# Altium schematic symbol library Microcontroller.Schlib: 21 symbols
Pins are listed as number, name and electrical type; pins without a type are passive.

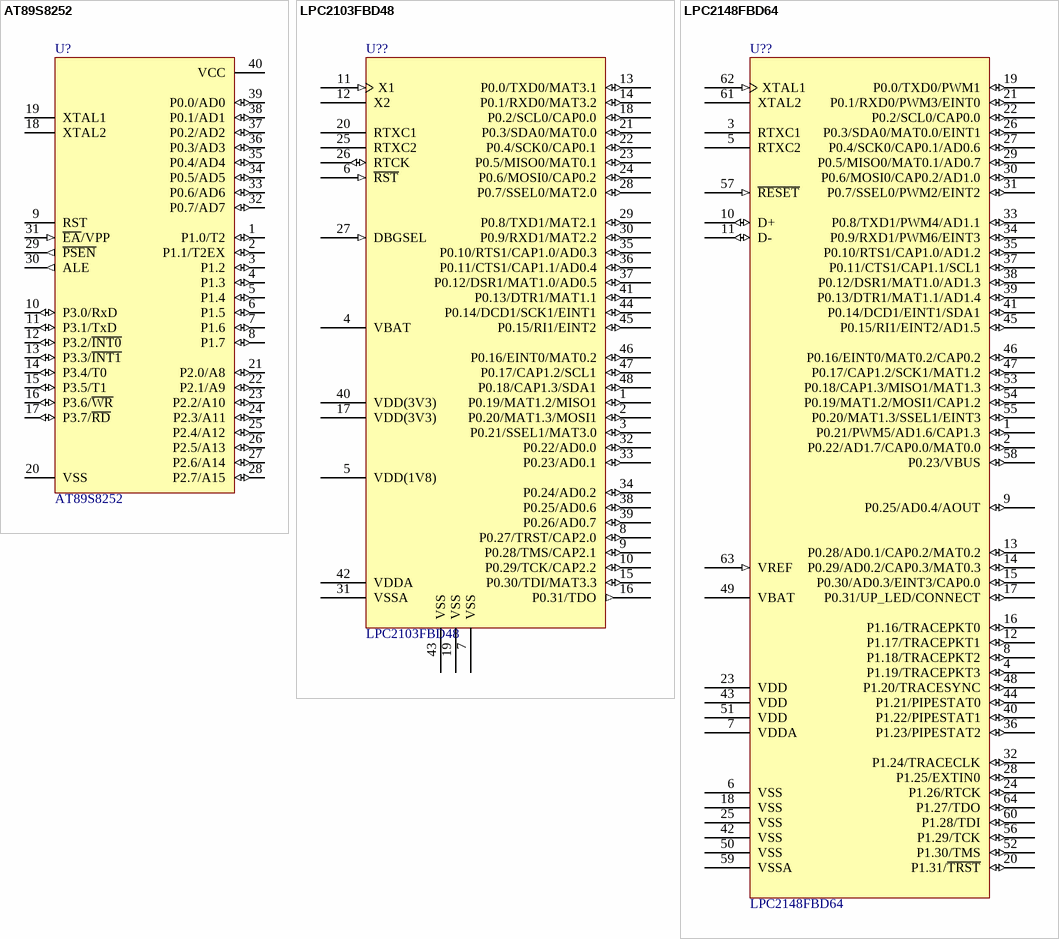
[diagram p0: symbols AT89S8252 to LPC2148FBD64]

## AT89S8252
designator U?
8051 8-Bit Microcontroller Family: 256 B RAM, 12 kB ROM, 2.7V-5.5V, Low Power, High Speed
footprint DIP40 (DIP, Plastic; 40 Leads; Row Spacing 15.24 mm; Pitch 2.54 mm)
pins: 1 P1.0/T2 (io), 2 P1.1/T2EX (io), 3 P1.2 (io), 4 P1.3 (io), 5 P1.4 (io), 6 P1.5 (io), 7 P1.6 (io), 8 P1.7 (io), 9 RST, 10 P3.0/RxD (io), 11 P3.1/TxD (io), 12 P3.2/~{INT0} (io), 13 P3.3/~{INT1} (io), 14 P3.4/T0 (io), 15 P3.5/T1 (io), 16 P3.6/~{WR} (io), 17 P3.7/~{RD} (io), 18 XTAL2, 19 XTAL1, 20 VSS (power), 21 P2.0/A8 (io), 22 P2.1/A9 (io), 23 P2.2/A10 (io), 24 P2.3/A11 (io), 25 P2.4/A12 (io), 26 P2.5/A13 (io), 27 P2.6/A14 (io), 28 P2.7/A15 (io), 29 ~{PSEN} (out), 30 ALE (out), 31 ~{EA}/VPP (in), 32 P0.7/AD7 (io), 33 P0.6/AD6 (io), 34 P0.5/AD5 (io), 35 P0.4/AD4 (io), 36 P0.3/AD3 (io), 37 P0.2/AD2 (io), 38 P0.1/AD1 (io), 39 P0.0/AD0 (io), 40 VCC (power)

## LPC2103FBD48
designator U??
ARM7 16/32-Bit Microcontroller, 32KB Flash, 8KB RAM, 48-Lead LQFP
footprint TQFP48_L (Thin QFP, 48-Leads, Body 7x7mm, Pitch 0.5mm, IPC High Density)
pins: 1 P0.19/MAT1.2/MISO1 (io), 2 P0.20/MAT1.3/MOSI1 (io), 3 P0.21/SSEL1/MAT3.0 (io), 4 VBAT (power), 5 VDD(1V8) (power), 6 ~{RST} (in), 7 VSS (power), 8 P0.27/TRST/CAP2.0 (io), 9 P0.28/TMS/CAP2.1 (io), 10 P0.29/TCK/CAP2.2 (io), 11 X1 (in), 12 X2, 13 P0.0/TXD0/MAT3.1 (io), 14 P0.1/RXD0/MAT3.2 (io), 15 P0.30/TDI/MAT3.3 (io), 16 P0.31/TDO (out), 17 VDD(3V3) (power), 18 P0.2/SCL0/CAP0.0 (io), 19 VSS (power), 20 RTXC1, 21 P0.3/SDA0/MAT0.0 (io), 22 P0.4/SCK0/CAP0.1 (io), 23 P0.5/MISO0/MAT0.1 (io), 24 P0.6/MOSI0/CAP0.2 (io), 25 RTXC2, 26 RTCK (io), 27 DBGSEL (in), 28 P0.7/SSEL0/MAT2.0 (io), 29 P0.8/TXD1/MAT2.1 (io), 30 P0.9/RXD1/MAT2.2 (io), 31 VSSA (power), 32 P0.22/AD0.0 (io), 33 P0.23/AD0.1 (io), 34 P0.24/AD0.2 (io), 35 P0.10/RTS1/CAP1.0/AD0.3 (io), 36 P0.11/CTS1/CAP1.1/AD0.4 (io), 37 P0.12/DSR1/MAT1.0/AD0.5 (io), 38 P0.25/AD0.6 (io), 39 P0.26/AD0.7 (io), 40 VDD(3V3) (power), 41 P0.13/DTR1/MAT1.1 (io), 42 VDDA (power), 43 VSS (power), 44 P0.14/DCD1/SCK1/EINT1 (io), 45 P0.15/RI1/EINT2 (io), 46 P0.16/EINT0/MAT0.2 (io), 47 P0.17/CAP1.2/SCL1 (io), 48 P0.18/CAP1.3/SDA1 (io)

## LPC2148FBD64
designator U??
ARM7 16/32-Bit Microcontroller, 512KB Flash, 32KB RAM (+8KB USB DMA shared), 2KB USB RAM, 64-Lead LQFP
footprint TQFP64_L_LPC2148FBD64_1 (64-Pin Thin Quad Flat Pack 0.5 mm Pitch, IPC High Density)
pins: 1 P0.21/PWM5/AD1.6/CAP1.3 (io), 2 P0.22/AD1.7/CAP0.0/MAT0.0 (io), 3 RTXC1, 4 P1.19/TRACEPKT3 (io), 5 RTXC2, 6 VSS (power), 7 VDDA (power), 8 P1.18/TRACEPKT2 (io), 9 P0.25/AD0.4/AOUT (io), 10 D+ (io), 11 D- (io), 12 P1.17/TRACEPKT1 (io), 13 P0.28/AD0.1/CAP0.2/MAT0.2 (io), 14 P0.29/AD0.2/CAP0.3/MAT0.3 (io), 15 P0.30/AD0.3/EINT3/CAP0.0 (io), 16 P1.16/TRACEPKT0 (io), 17 P0.31/UP_LED/CONNECT (io), 18 VSS (power), 19 P0.0/TXD0/PWM1 (io), 20 P1.31/~{TRST} (io), 21 P0.1/RXD0/PWM3/EINT0 (io), 22 P0.2/SCL0/CAP0.0 (io), 23 VDD (power), 24 P1.26/RTCK (io), 25 VSS (power), 26 P0.3/SDA0/MAT0.0/EINT1 (io), 27 P0.4/SCK0/CAP0.1/AD0.6 (io), 28 P1.25/EXTIN0 (io), 29 P0.5/MISO0/MAT0.1/AD0.7 (io), 30 P0.6/MOSI0/CAP0.2/AD1.0 (io), 31 P0.7/SSEL0/PWM2/EINT2 (io), 32 P1.24/TRACECLK (io), 33 P0.8/TXD1/PWM4/AD1.1 (io), 34 P0.9/RXD1/PWM6/EINT3 (io), 35 P0.10/RTS1/CAP1.0/AD1.2 (io), 36 P1.23/PIPESTAT2 (io), 37 P0.11/CTS1/CAP1.1/SCL1 (io), 38 P0.12/DSR1/MAT1.0/AD1.3 (io), 39 P0.13/DTR1/MAT1.1/AD1.4 (io), 40 P1.22/PIPESTAT1 (io), 41 P0.14/DCD1/EINT1/SDA1 (io), 42 VSS (power), 43 VDD (power), 44 P1.21/PIPESTAT0 (io), 45 P0.15/RI1/EINT2/AD1.5 (io), 46 P0.16/EINT0/MAT0.2/CAP0.2 (io), 47 P0.17/CAP1.2/SCK1/MAT1.2 (io), 48 P1.20/TRACESYNC (io), 49 VBAT (power), 50 VSS (power), 51 VDD (power), 52 P1.30/TMS (io), 53 P0.18/CAP1.3/MISO1/MAT1.3 (io), 54 P0.19/MAT1.2/MOSI1/CAP1.2 (io), 55 P0.20/MAT1.3/SSEL1/EINT3 (io), 56 P1.29/TCK (io), 57 ~{RESET} (in), 58 P0.23/VBUS (io), 59 VSSA (power), 60 P1.28/TDI (io), 61 XTAL2, 62 XTAL1 (in), 63 VREF (in), 64 P1.27/TDO (io)

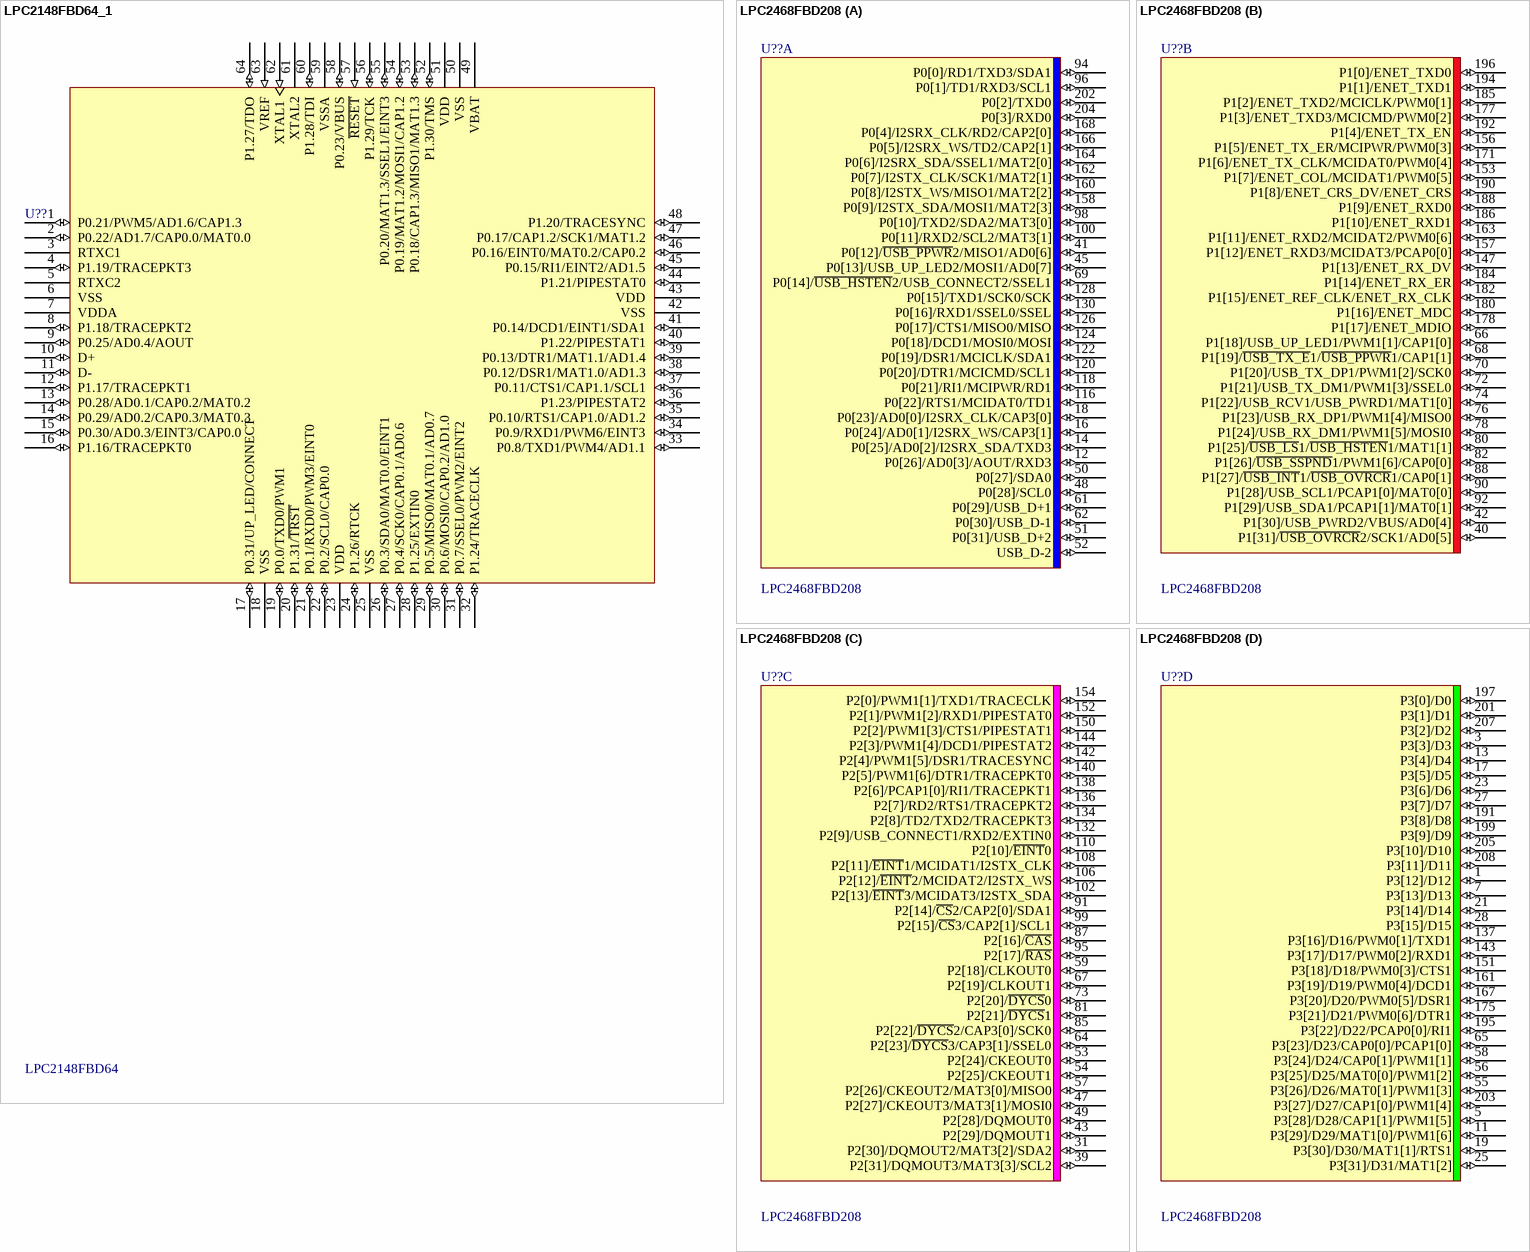
[diagram p1: symbols LPC2148FBD64_1 to LPC2468FBD208]

## LPC2148FBD64_1
designator U??, comment LPC2148FBD64
ARM7 16/32-Bit Microcontroller, 512KB Flash, 32KB RAM (+8KB USB DMA shared), 2KB USB RAM, 64-Lead LQFP
footprint TQFP64_L_LPC2148FBD64_1 (64-Pin Thin Quad Flat Pack 0.5 mm Pitch, IPC High Density)
pins: 1 P0.21/PWM5/AD1.6/CAP1.3 (io), 2 P0.22/AD1.7/CAP0.0/MAT0.0 (io), 3 RTXC1, 4 P1.19/TRACEPKT3 (io), 5 RTXC2, 6 VSS (power), 7 VDDA (power), 8 P1.18/TRACEPKT2 (io), 9 P0.25/AD0.4/AOUT (io), 10 D+ (io), 11 D- (io), 12 P1.17/TRACEPKT1 (io), 13 P0.28/AD0.1/CAP0.2/MAT0.2 (io), 14 P0.29/AD0.2/CAP0.3/MAT0.3 (io), 15 P0.30/AD0.3/EINT3/CAP0.0 (io), 16 P1.16/TRACEPKT0 (io), 17 P0.31/UP_LED/CONNECT (io), 18 VSS (power), 19 P0.0/TXD0/PWM1 (io), 20 P1.31/~{TRST} (io), 21 P0.1/RXD0/PWM3/EINT0 (io), 22 P0.2/SCL0/CAP0.0 (io), 23 VDD (power), 24 P1.26/RTCK (io), 25 VSS (power), 26 P0.3/SDA0/MAT0.0/EINT1 (io), 27 P0.4/SCK0/CAP0.1/AD0.6 (io), 28 P1.25/EXTIN0 (io), 29 P0.5/MISO0/MAT0.1/AD0.7 (io), 30 P0.6/MOSI0/CAP0.2/AD1.0 (io), 31 P0.7/SSEL0/PWM2/EINT2 (io), 32 P1.24/TRACECLK (io), 33 P0.8/TXD1/PWM4/AD1.1 (io), 34 P0.9/RXD1/PWM6/EINT3 (io), 35 P0.10/RTS1/CAP1.0/AD1.2 (io), 36 P1.23/PIPESTAT2 (io), 37 P0.11/CTS1/CAP1.1/SCL1 (io), 38 P0.12/DSR1/MAT1.0/AD1.3 (io), 39 P0.13/DTR1/MAT1.1/AD1.4 (io), 40 P1.22/PIPESTAT1 (io), 41 P0.14/DCD1/EINT1/SDA1 (io), 42 VSS (power), 43 VDD (power), 44 P1.21/PIPESTAT0 (io), 45 P0.15/RI1/EINT2/AD1.5 (io), 46 P0.16/EINT0/MAT0.2/CAP0.2 (io), 47 P0.17/CAP1.2/SCK1/MAT1.2 (io), 48 P1.20/TRACESYNC (io), 49 VBAT (power), 50 VSS (power), 51 VDD (power), 52 P1.30/TMS (io), 53 P0.18/CAP1.3/MISO1/MAT1.3 (io), 54 P0.19/MAT1.2/MOSI1/CAP1.2 (io), 55 P0.20/MAT1.3/SSEL1/EINT3 (io), 56 P1.29/TCK (io), 57 ~{RESET} (in), 58 P0.23/VBUS (io), 59 VSSA (power), 60 P1.28/TDI (io), 61 XTAL2, 62 XTAL1 (in), 63 VREF (in), 64 P1.27/TDO (io)

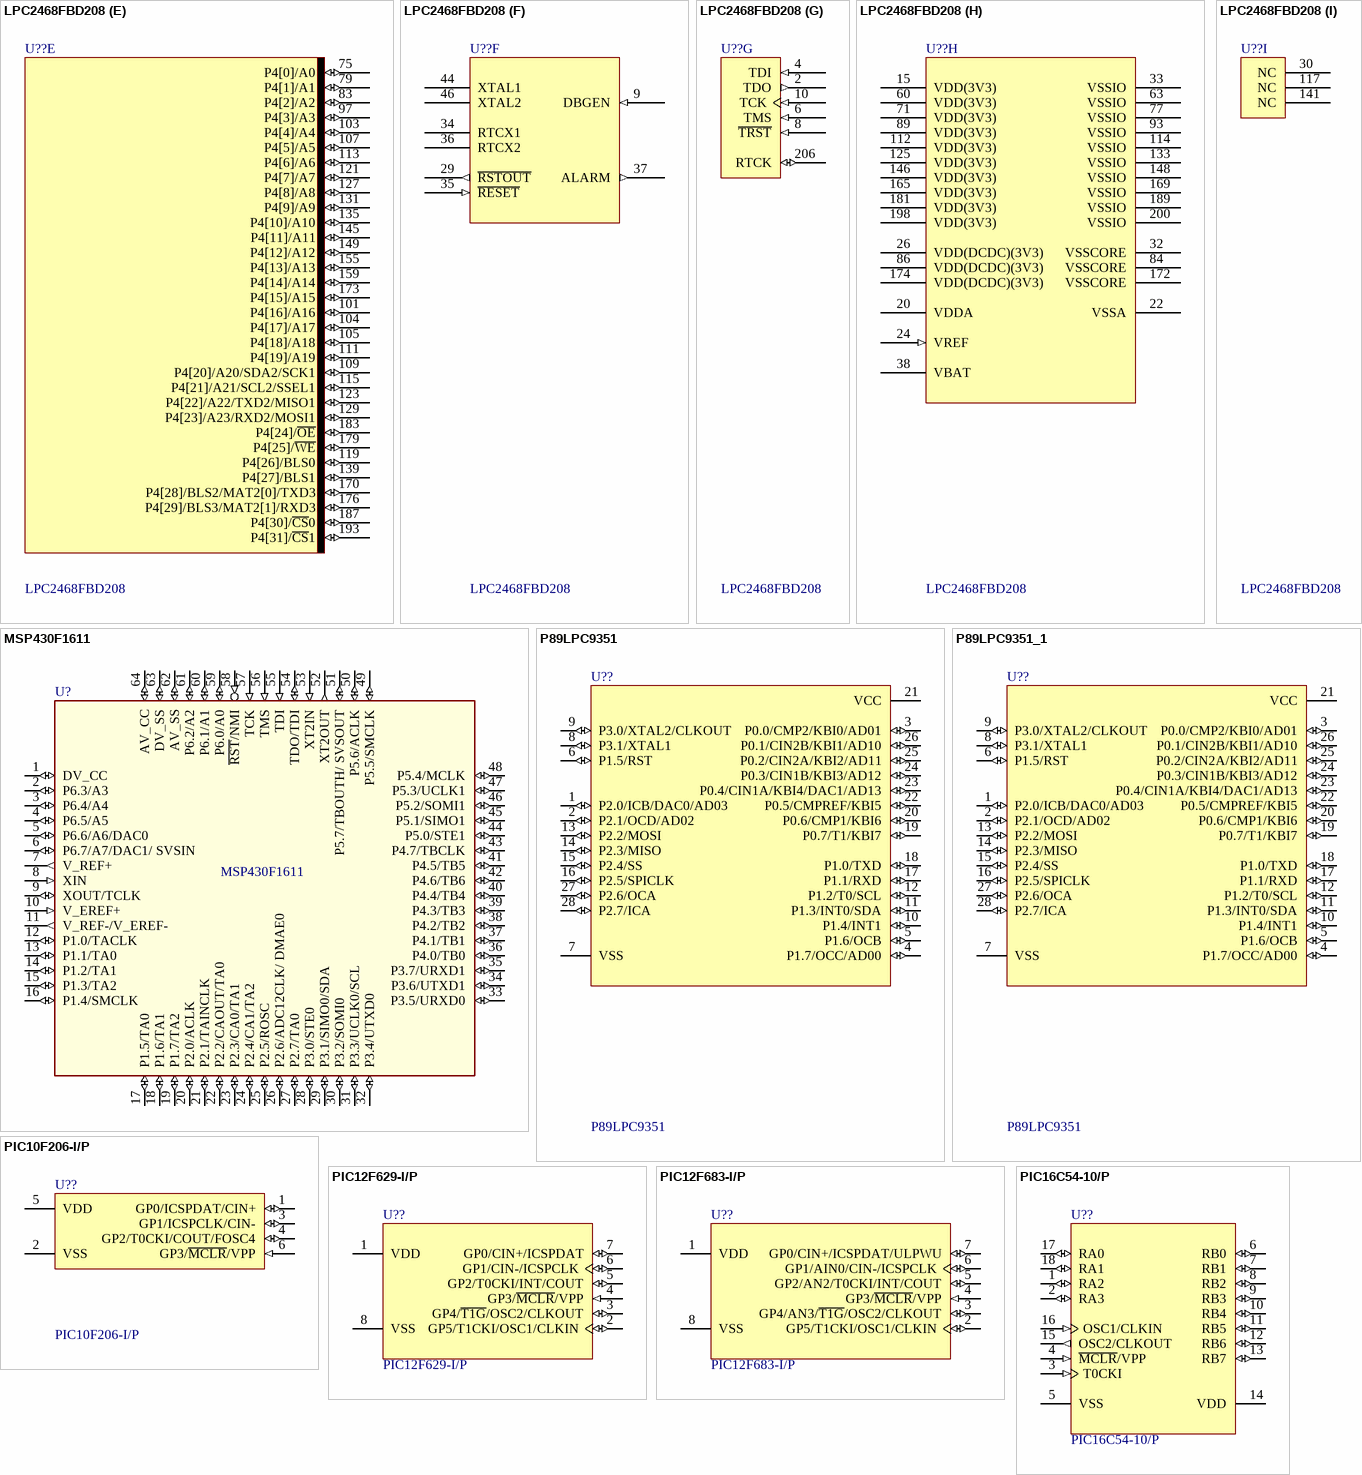
[diagram p2: symbols LPC2468FBD208 to PIC16C54-10/P]

## LPC2468FBD208
designator U??
ARM7 16/32-Bit Microcontroller, 512KB Flash, 98KB RAM, 208-Lead LQFP; Code_IEC: 136E30; Published: 17-Aug-2007; DatasheetVersion: rev.01, Jul-2007; PackageVersion: Feb-2003; PackageReference: SOT459-1; Publisher: Altium Limited; PackageDescription: 208-Pin Plastic Low Profile Quad Flat Pack, LQFP208; Code_JEDEC: MS-026; ComponentLink1Description: Manufacturer Link; ComponentLink1URL: http://www.nxp.com/; ComponentLink2Description: Datasheet; ComponentLink2URL: http://www.standardics.nxp.com/products/lpc2000/datasheet/lpc2468.pdf
footprint SOT459-1_L (Thin QFP, 208-Leads, Body 28x28mm, Pitch 0.5mm, IPC High Density)
part A pins: 12 P0[26]/AD0[3]/AOUT/RXD3 (io), 14 P0[25]/AD0[2]/I2SRX_SDA/TXD3 (io), 16 P0[24]/AD0[1]/I2SRX_WS/CAP3[1] (io), 18 P0[23]/AD0[0]/I2SRX_CLK/CAP3[0] (io), 41 P0[12]/~{USB_PPWR}2/MISO1/AD0[6] (io), 45 P0[13]/USB_UP_LED2/MOSI1/AD0[7] (io), 48 P0[28]/SCL0 (io), 50 P0[27]/SDA0 (io), 51 P0[31]/USB_D+2 (io), 52 USB_D-2 (io), 61 P0[29]/USB_D+1 (io), 62 P0[30]/USB_D-1 (io), 69 P0[14]/~{USB_HSTEN}2/USB_CONNECT2/SSEL1 (io), 94 P0[0]/RD1/TXD3/SDA1 (io), 96 P0[1]/TD1/RXD3/SCL1 (io), 98 P0[10]/TXD2/SDA2/MAT3[0] (io), 100 P0[11]/RXD2/SCL2/MAT3[1] (io), 116 P0[22]/RTS1/MCIDAT0/TD1 (io), 118 P0[21]/RI1/MCIPWR/RD1 (io), 120 P0[20]/DTR1/MCICMD/SCL1 (io), 122 P0[19]/DSR1/MCICLK/SDA1 (io), 124 P0[18]/DCD1/MOSI0/MOSI (io), 126 P0[17]/CTS1/MISO0/MISO (io), 128 P0[15]/TXD1/SCK0/SCK (io), 130 P0[16]/RXD1/SSEL0/SSEL (io), 158 P0[9]/I2STX_SDA/MOSI1/MAT2[3] (io), 160 P0[8]/I2STX_WS/MISO1/MAT2[2] (io), 162 P0[7]/I2STX_CLK/SCK1/MAT2[1] (io), 164 P0[6]/I2SRX_SDA/SSEL1/MAT2[0] (io), 166 P0[5]/I2SRX_WS/TD2/CAP2[1] (io), 168 P0[4]/I2SRX_CLK/RD2/CAP2[0] (io), 202 P0[2]/TXD0 (io), 204 P0[3]/RXD0 (io)
part B pins: 40 P1[31]/~{USB_OVRCR}2/SCK1/AD0[5] (io), 42 P1[30]/USB_PWRD2/VBUS/AD0[4] (io), 66 P1[18]/USB_UP_LED1/PWM1[1]/CAP1[0] (io), 68 P1[19]/~{USB_TX_E}1/~{USB_PPWR}1/CAP1[1] (io), 70 P1[20]/USB_TX_DP1/PWM1[2]/SCK0 (io), 72 P1[21]/USB_TX_DM1/PWM1[3]/SSEL0 (io), 74 P1[22]/USB_RCV1/USB_PWRD1/MAT1[0] (io), 76 P1[23]/USB_RX_DP1/PWM1[4]/MISO0 (io), 78 P1[24]/USB_RX_DM1/PWM1[5]/MOSI0 (io), 80 P1[25]/~{USB_LS}1/~{USB_HSTEN}1/MAT1[1] (io), 82 P1[26]/~{USB_SSPND}1/PWM1[6]/CAP0[0] (io), 88 P1[27]/~{USB_INT}1/~{USB_OVRCR}1/CAP0[1] (io), 90 P1[28]/USB_SCL1/PCAP1[0]/MAT0[0] (io), 92 P1[29]/USB_SDA1/PCAP1[1]/MAT0[1] (io), 147 P1[13]/ENET_RX_DV (io), 153 P1[7]/ENET_COL/MCIDAT1/PWM0[5] (io), 156 P1[5]/ENET_TX_ER/MCIPWR/PWM0[3] (io), 157 P1[12]/ENET_RXD3/MCIDAT3/PCAP0[0] (io), 163 P1[11]/ENET_RXD2/MCIDAT2/PWM0[6] (io), 171 P1[6]/ENET_TX_CLK/MCIDAT0/PWM0[4] (io), 177 P1[3]/ENET_TXD3/MCICMD/PWM0[2] (io), 178 P1[17]/ENET_MDIO (io), 180 P1[16]/ENET_MDC (io), 182 P1[15]/ENET_REF_CLK/ENET_RX_CLK (io), 184 P1[14]/ENET_RX_ER (io), 185 P1[2]/ENET_TXD2/MCICLK/PWM0[1] (io), 186 P1[10]/ENET_RXD1 (io), 188 P1[9]/ENET_RXD0 (io), 190 P1[8]/ENET_CRS_DV/ENET_CRS (io), 192 P1[4]/ENET_TX_EN (io), 194 P1[1]/ENET_TXD1 (io), 196 P1[0]/ENET_TXD0 (io)
part C pins: 31 P2[30]/DQMOUT2/MAT3[2]/SDA2 (io), 39 P2[31]/DQMOUT3/MAT3[3]/SCL2 (io), 43 P2[29]/DQMOUT1 (io), 47 P2[27]/CKEOUT3/MAT3[1]/MOSI0 (io), 49 P2[28]/DQMOUT0 (io), 53 P2[24]/CKEOUT0 (io), 54 P2[25]/CKEOUT1 (io), 57 P2[26]/CKEOUT2/MAT3[0]/MISO0 (io), 59 P2[18]/CLKOUT0 (io), 64 P2[23]/~{DYCS}3/CAP3[1]/SSEL0 (io), 67 P2[19]/CLKOUT1 (io), 73 P2[20]/~{DYCS}0 (io), 81 P2[21]/~{DYCS}1 (io), 85 P2[22]/~{DYCS}2/CAP3[0]/SCK0 (io), 87 P2[16]/~{CAS} (io), 91 P2[14]/~{CS}2/CAP2[0]/SDA1 (io), 95 P2[17]/~{RAS} (io), 99 P2[15]/~{CS}3/CAP2[1]/SCL1 (io), 102 P2[13]/~{EINT}3/MCIDAT3/I2STX_SDA (io), 106 P2[12]/~{EINT}2/MCIDAT2/I2STX_WS (io), 108 P2[11]/~{EINT}1/MCIDAT1/I2STX_CLK (io), 110 P2[10]/~{EINT}0 (io), 132 P2[9]/USB_CONNECT1/RXD2/EXTIN0 (io), 134 P2[8]/TD2/TXD2/TRACEPKT3 (io), 136 P2[7]/RD2/RTS1/TRACEPKT2 (io), 138 P2[6]/PCAP1[0]/RI1/TRACEPKT1 (io), 140 P2[5]/PWM1[6]/DTR1/TRACEPKT0 (io), 142 P2[4]/PWM1[5]/DSR1/TRACESYNC (io), 144 P2[3]/PWM1[4]/DCD1/PIPESTAT2 (io), 150 P2[2]/PWM1[3]/CTS1/PIPESTAT1 (io), 152 P2[1]/PWM1[2]/RXD1/PIPESTAT0 (io), 154 P2[0]/PWM1[1]/TXD1/TRACECLK (io)
part D pins: 1 P3[12]/D12 (io), 3 P3[3]/D3 (io), 5 P3[28]/D28/CAP1[1]/PWM1[5] (io), 7 P3[13]/D13 (io), 11 P3[29]/D29/MAT1[0]/PWM1[6] (io), 13 P3[4]/D4 (io), 17 P3[5]/D5 (io), 19 P3[30]/D30/MAT1[1]/RTS1 (io), 21 P3[14]/D14 (io), 23 P3[6]/D6 (io), 25 P3[31]/D31/MAT1[2] (io), 27 P3[7]/D7 (io), 28 P3[15]/D15 (io), 55 P3[26]/D26/MAT0[1]/PWM1[3] (io), 56 P3[25]/D25/MAT0[0]/PWM1[2] (io), 58 P3[24]/D24/CAP0[1]/PWM1[1] (io), 65 P3[23]/D23/CAP0[0]/PCAP1[0] (io), 137 P3[16]/D16/PWM0[1]/TXD1 (io), 143 P3[17]/D17/PWM0[2]/RXD1 (io), 151 P3[18]/D18/PWM0[3]/CTS1 (io), 161 P3[19]/D19/PWM0[4]/DCD1 (io), 167 P3[20]/D20/PWM0[5]/DSR1 (io), 175 P3[21]/D21/PWM0[6]/DTR1 (io), 191 P3[8]/D8 (io), 195 P3[22]/D22/PCAP0[0]/RI1 (io), 197 P3[0]/D0 (io), 199 P3[9]/D9 (io), 201 P3[1]/D1 (io), 203 P3[27]/D27/CAP1[0]/PWM1[4] (io), 205 P3[10]/D10 (io), 207 P3[2]/D2 (io), 208 P3[11]/D11 (io)
part E pins: 75 P4[0]/A0 (io), 79 P4[1]/A1 (io), 83 P4[2]/A2 (io), 97 P4[3]/A3 (io), 101 P4[16]/A16 (io), 103 P4[4]/A4 (io), 104 P4[17]/A17 (io), 105 P4[18]/A18 (io), 107 P4[5]/A5 (io), 109 P4[20]/A20/SDA2/SCK1 (io), 111 P4[19]/A19 (io), 113 P4[6]/A6 (io), 115 P4[21]/A21/SCL2/SSEL1 (io), 119 P4[26]/BLS0 (io), 121 P4[7]/A7 (io), 123 P4[22]/A22/TXD2/MISO1 (io), 127 P4[8]/A8 (io), 129 P4[23]/A23/RXD2/MOSI1 (io), 131 P4[9]/A9 (io), 135 P4[10]/A10 (io), 139 P4[27]/BLS1 (io), 145 P4[11]/A11 (io), 149 P4[12]/A12 (io), 155 P4[13]/A13 (io), 159 P4[14]/A14 (io), 170 P4[28]/BLS2/MAT2[0]/TXD3 (io), 173 P4[15]/A15 (io), 176 P4[29]/BLS3/MAT2[1]/RXD3 (io), 179 P4[25]/~{WE} (io), 183 P4[24]/~{OE} (io), 187 P4[30]/~{CS}0 (io), 193 P4[31]/~{CS}1 (io)
part F pins: 9 DBGEN (in), 29 ~{RSTOUT} (out), 34 RTCX1, 35 ~{RESET} (in), 36 RTCX2, 37 ALARM (out), 44 XTAL1, 46 XTAL2
part G pins: 2 TDO (out), 4 TDI (in), 6 TMS (in), 8 ~{TRST} (in), 10 TCK (in), 206 RTCK (io)
part H pins: 15 VDD(3V3) (power), 20 VDDA (power), 22 VSSA (power), 24 VREF (in), 26 VDD(DCDC)(3V3) (power), 32 VSSCORE (power), 33 VSSIO (power), 38 VBAT (power), 60 VDD(3V3) (power), 63 VSSIO (power), 71 VDD(3V3) (power), 77 VSSIO (power), 84 VSSCORE (power), 86 VDD(DCDC)(3V3) (power), 89 VDD(3V3) (power), 93 VSSIO (power), 112 VDD(3V3) (power), 114 VSSIO (power), 125 VDD(3V3) (power), 133 VSSIO (power), 146 VDD(3V3) (power), 148 VSSIO (power), 165 VDD(3V3) (power), 169 VSSIO (power), 172 VSSCORE (power), 174 VDD(DCDC)(3V3) (power), 181 VDD(3V3) (power), 189 VSSIO (power), 198 VDD(3V3) (power), 200 VSSIO (power)
part I pins: 30 NC, 117 NC, 141 NC

## MSP430F1611
designator U?
Microcontrolador da Texas Intrumentes baseado no núcleo MSP430
footprint TQFP64_L_MSP430F1611 (64-Pin Thin Quad Flat Pack 0.5 mm Pitch, IPC High Density)
pins: 1 DV_CC (io), 2 P6.3/A3 (io), 3 P6.4/A4 (io), 4 P6.5/A5 (io), 5 P6.6/A6/DAC0 (io), 6 P6.7/A7/DAC1/ SVSIN (io), 7 V_REF+ (out), 8 XIN (in), 9 XOUT/TCLK (io), 10 V_EREF+ (in), 11 V_REF-/V_EREF- (out), 12 P1.0/TACLK (io), 13 P1.1/TA0 (io), 14 P1.2/TA1 (io), 15 P1.3/TA2 (io), 16 P1.4/SMCLK (io), 17 P1.5/TA0 (io), 18 P1.6/TA1 (io), 19 P1.7/TA2 (io), 20 P2.0/ACLK (io), 21 P2.1/TAINCLK (io), 22 P2.2/CAOUT/TA0 (io), 23 P2.3/CA0/TA1 (io), 24 P2.4/CA1/TA2 (io), 25 P2.5/ROSC (io), 26 P2.6/ADC12CLK/ DMAE0 (io), 27 P2.7/TA0 (io), 28 P3.0/STE0 (io), 29 P3.1/SIMO0/SDA (io), 30 P3.2/SOMI0 (io), 31 P3.3/UCLK0/SCL (io), 32 P3.4/UTXD0 (io), 33 P3.5/URXD0 (io), 34 P3.6/UTXD1 (io), 35 P3.7/URXD1 (io), 36 P4.0/TB0 (io), 37 P4.1/TB1 (io), 38 P4.2/TB2 (io), 39 P4.3/TB3 (io), 40 P4.4/TB4 (io), 41 P4.5/TB5 (io), 42 P4.6/TB6 (io), 43 P4.7/TBCLK (io), 44 P5.0/STE1 (io), 45 P5.1/SIMO1 (io), 46 P5.2/SOMI1 (io), 47 P5.3/UCLK1 (io), 48 P5.4/MCLK (io), 49 P5.5/SMCLK (io), 50 P5.6/ACLK (io), 51 P5.7/TBOUTH/ SVSOUT (io), 52 XT2OUT (out), 53 XT2IN (in), 54 TDO/TDI (io), 55 TDI (in), 56 TMS (in), 57 TCK (in), 58 ~{RST}/NMI (in), 59 P6.0/A0 (io), 60 P6.1/A1 (io), 61 P6.2/A2 (io), 62 AV_SS (io), 63 DV_SS (io), 64 AV_CC (io)

## P89LPC9351
designator U??
8051 8-Bit Microcontroller Family: 256 B RAM, 12 kB ROM, 2.7V-5.5V, Low Power, High Speed; Published: 21-May-2003; DatasheetVersion: 7-Aug-2000; PackageVersion: Aug-2000; PackageReference: SOT129-1; Publisher: Altium Limited; PackageDescription: DIP, Plastic; 40 Leads; Row Spacing 15.24 mm; Pitch 2.54 mm; Code_JEDEC: MO-015; ComponentLink1Description: Manufacturer Link; ComponentLink1URL: http://www-us2.semiconductors.philips.com/; ComponentLink2Description: Datasheet; ComponentLink2URL: http://www.semiconductors.philips.com/acrobat/datasheets/8XC51_8XC52_6.pdf
footprint SO28_L (SOIC, 28-Leads, Body 17.9x7.5mm, Pitch 1.27mm, IPC High Density)
pins: 1 P2.0/ICB/DAC0/AD03 (io), 2 P2.1/OCD/AD02 (io), 3 P0.0/CMP2/KBI0/AD01 (io), 4 P1.7/OCC/AD00 (io), 5 P1.6/OCB (io), 6 P1.5/RST (io), 7 VSS (power), 8 P3.1/XTAL1 (io), 9 P3.0/XTAL2/CLKOUT (io), 10 P1.4/INT1 (io), 11 P1.3/INT0/SDA (io), 12 P1.2/T0/SCL (io), 13 P2.2/MOSI (io), 14 P2.3/MISO (io), 15 P2.4/SS (io), 16 P2.5/SPICLK (io), 17 P1.1/RXD (io), 18 P1.0/TXD (io), 19 P0.7/T1/KBI7 (io), 20 P0.6/CMP1/KBI6 (io), 21 VCC (power), 22 P0.5/CMPREF/KBI5 (io), 23 P0.4/CIN1A/KBI4/DAC1/AD13 (io), 24 P0.3/CIN1B/KBI3/AD12 (io), 25 P0.2/CIN2A/KBI2/AD11 (io), 26 P0.1/CIN2B/KBI1/AD10 (io), 27 P2.6/OCA (io), 28 P2.7/ICA (io)

## P89LPC9351_1
designator U??, comment P89LPC9351
8051 8-Bit Microcontroller Family: 256 B RAM, 12 kB ROM, 2.7V-5.5V, Low Power, High Speed; Published: 21-May-2003; DatasheetVersion: 7-Aug-2000; PackageVersion: Aug-2000; PackageReference: SOT129-1; Publisher: Altium Limited; PackageDescription: DIP, Plastic; 40 Leads; Row Spacing 15.24 mm; Pitch 2.54 mm; Code_JEDEC: MO-015; ComponentLink1Description: Manufacturer Link; ComponentLink1URL: http://www-us2.semiconductors.philips.com/; ComponentLink2Description: Datasheet; ComponentLink2URL: http://www.semiconductors.philips.com/acrobat/datasheets/8XC51_8XC52_6.pdf
footprint PLCC28_N (Leaded Chip Carrier, 28-Leads, Body 11.5x11.5mm, Pitch 1.27mm, IPC Medium Density)
pins: 1 P2.0/ICB/DAC0/AD03 (io), 2 P2.1/OCD/AD02 (io), 3 P0.0/CMP2/KBI0/AD01 (io), 4 P1.7/OCC/AD00 (io), 5 P1.6/OCB (io), 6 P1.5/RST (io), 7 VSS (power), 8 P3.1/XTAL1 (io), 9 P3.0/XTAL2/CLKOUT (io), 10 P1.4/INT1 (io), 11 P1.3/INT0/SDA (io), 12 P1.2/T0/SCL (io), 13 P2.2/MOSI (io), 14 P2.3/MISO (io), 15 P2.4/SS (io), 16 P2.5/SPICLK (io), 17 P1.1/RXD (io), 18 P1.0/TXD (io), 19 P0.7/T1/KBI7 (io), 20 P0.6/CMP1/KBI6 (io), 21 VCC (power), 22 P0.5/CMPREF/KBI5 (io), 23 P0.4/CIN1A/KBI4/DAC1/AD13 (io), 24 P0.3/CIN1B/KBI3/AD12 (io), 25 P0.2/CIN2A/KBI2/AD11 (io), 26 P0.1/CIN2B/KBI1/AD10 (io), 27 P2.6/OCA (io), 28 P2.7/ICA (io)

## PIC10F206-I/P
designator U??
FLASH-Based 8-Bit CMOS Microcontroller, 8-Pin PDIP, Industrial Temperature
footprint SOT23-6 (SOT-23/SC-74A; 5 Leads; Body 3.1 x 3 mm, inc. leads (LxW max))
pins: 1 GP0/ICSPDAT/CIN+ (io), 2 VSS (power), 3 GP1/ICSPCLK/CIN- (io), 4 GP2/T0CKI/COUT/FOSC4 (io), 5 VDD (power), 6 GP3/~{MCLR}/VPP (in)

## PIC12F629-I/P
designator U??
FLASH-Based 8-Bit CMOS Microcontroller, 8-Pin PDIP, Industrial Temperature
footprint DIP8 (DIP; 8 Leads; Row Spacing 7.62 mm; Pitch 2.54 mm)
pins: 1 VDD (power), 2 GP5/T1CKI/OSC1/CLKIN (io), 3 GP4/~{T1G}/OSC2/CLKOUT (io), 4 GP3/~{MCLR}/VPP (in), 5 GP2/T0CKI/INT/COUT (io), 6 GP1/CIN-/ICSPCLK (io), 7 GP0/CIN+/ICSPDAT (io), 8 VSS (power)

## PIC12F683-I/P
designator U??
FLASH-Based 8-Bit CMOS Microcontroller, 8-Pin PDIP, Industrial Temperature
footprint SOP8_N (SOIC, 8-Leads, Body 4.9x3.9mm, Pitch 1.27mm, IPC Medium Density)
pins: 1 VDD (power), 2 GP5/T1CKI/OSC1/CLKIN (io), 3 GP4/AN3/~{T1G}/OSC2/CLKOUT (io), 4 GP3/~{MCLR}/VPP (in), 5 GP2/AN2/T0CKI/INT/COUT (io), 6 GP1/AIN0/CIN-/ICSPCLK (io), 7 GP0/CIN+/ICSPDAT/ULPWU (io), 8 VSS (power)

## PIC16C54-10/P
designator U??
EPROM-Based 8-Bit CMOS Microcontroller, 25 Bytes RAM, 10 MHz, 18-Pin PDIP, 4.5 to 5.5V Supply Range, Commercial Temperature
footprint DIP18 (DIP; 18 Leads; Row Spacing 7.62 mm; Pitch 2.54 mm)
pins: 1 RA2 (io), 2 RA3 (io), 3 T0CKI (in), 4 ~{MCLR}/VPP (in), 5 VSS (power), 6 RB0 (io), 7 RB1 (io), 8 RB2 (io), 9 RB3 (io), 10 RB4 (io), 11 RB5 (io), 12 RB6 (io), 13 RB7 (io), 14 VDD (power), 15 OSC2/CLKOUT (out), 16 OSC1/CLKIN (in), 17 RA0 (io), 18 RA1 (io)

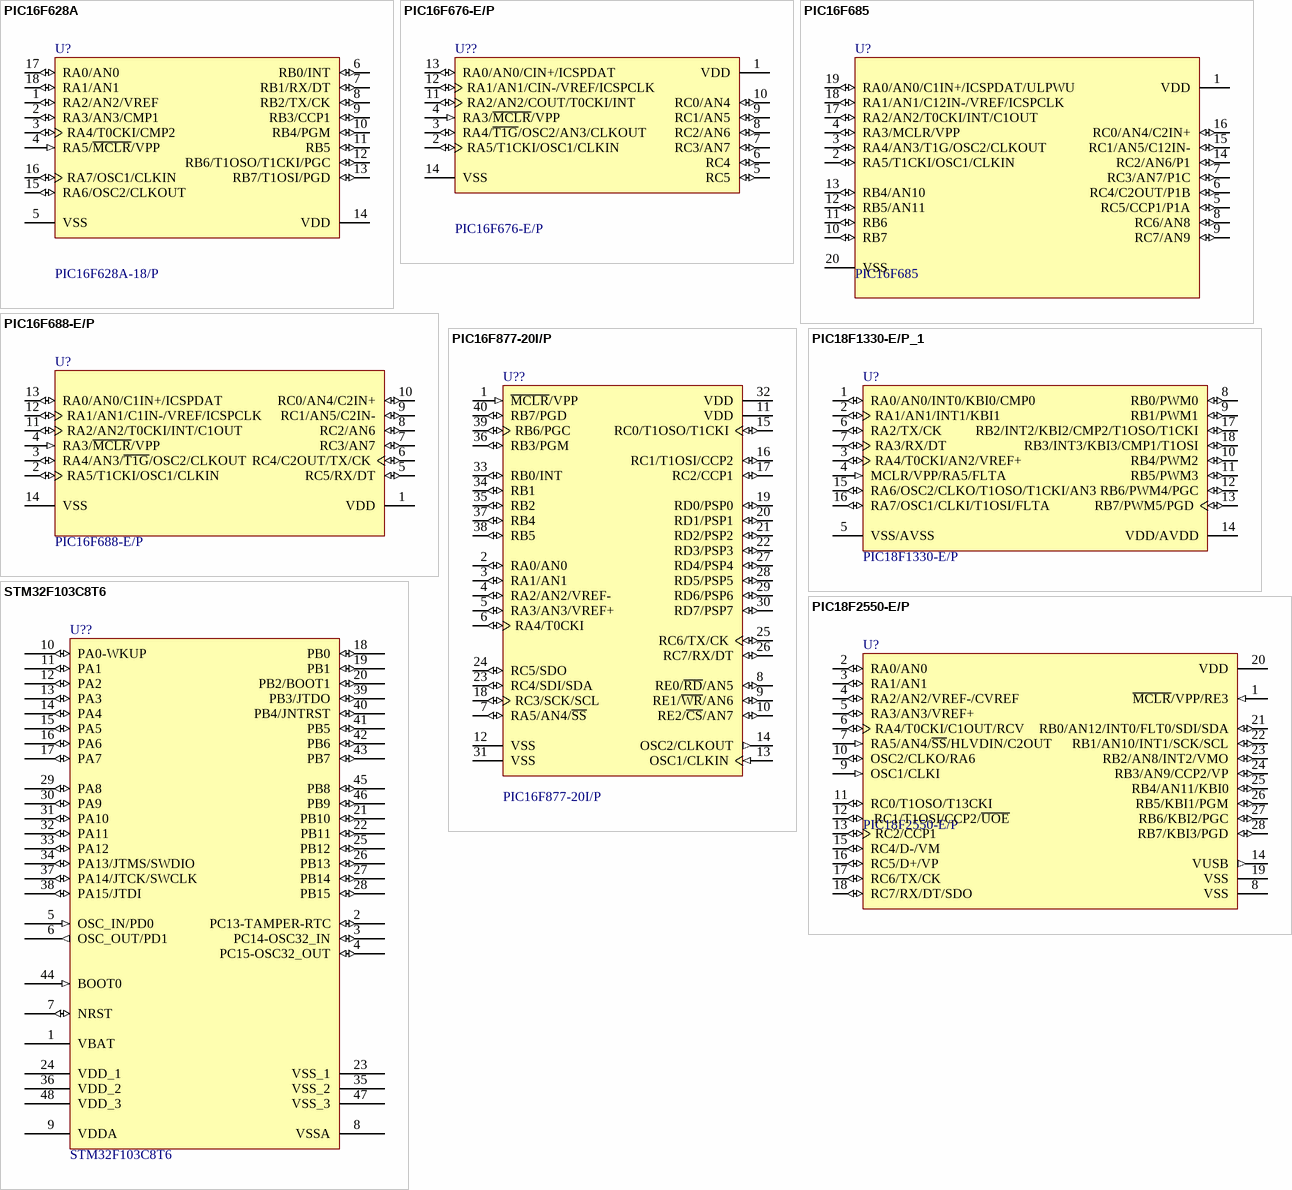
[diagram p3: symbols PIC16F628A to STM32F103C8T6]

## PIC16F628A
designator U?, comment PIC16F628A-18/P
EPROM-Based 8-Bit CMOS Microcontroller, 25 Bytes RAM, 10 MHz, 18-Pin PDIP, 4.5 to 5.5V Supply Range, Commercial Temperature; Note: Verify oscillator characteristics if changing from this device to another.; Note: Not recommended for new designs. Consider PIC16C54C instead.; Published: 11-Oct-2004; LatestRevisionDate: 04-Mar-2005; LatestRevisionNote: Stylized 3D Model Added.; DatasheetVersion: DS30453D_2002; PackageVersion: 2003; PackageReference: PDIP300-18; Publisher: Altium Limited; PackageDescription: DIP, Plastic; 18 Leads; Row Spacing 7.62 mm; Pitch 2.54 mm; Code_JEDEC: MS-001; ComponentLink1Description: Manufacturer Link; ComponentLink1URL: http://www.microchip.com; ComponentLink2Description: Datasheet; ComponentLink2URL: http://ww1.microchip.com/downloads/en/DeviceDoc/30453d.pdf; ComponentLink3Description: Packaging Specification; ComponentLink3URL: http://ww1.microchip.com/downloads/en/PackagingSpec/00049AD.pdf
footprint SOIC300-18_M (SOIC, 18-Leads, Body 11.5x7.5mm, Pitch 1.27mm, IPC Low Density)
footprint SOIC300-18_N (SOIC, 18-Leads, Body 11.5x7.5mm, Pitch 1.27mm, IPC Medium Density)
footprint SOIC300-18_L (SOIC, 18-Leads, Body 11.5x7.5mm, Pitch 1.27mm, IPC High Density)
pins: 1 RA2/AN2/VREF (io), 2 RA3/AN3/CMP1 (io), 3 RA4/T0CKI/CMP2 (io), 4 RA5/~{MCLR}/VPP (in), 5 VSS (power), 6 RB0/INT (io), 7 RB1/RX/DT (io), 8 RB2/TX/CK (io), 9 RB3/CCP1 (io), 10 RB4/PGM (io), 11 RB5 (io), 12 RB6/T1OSO/T1CKI/PGC (io), 13 RB7/T1OSI/PGD (io), 14 VDD (power), 15 RA6/OSC2/CLKOUT (io), 16 RA7/OSC1/CLKIN (io), 17 RA0/AN0 (io), 18 RA1/AN1 (io)

## PIC16F676-E/P
designator U??
FLASH-Based 8-Bit CMOS Microcontroller, 10-Bit A/D, 1K (x14-Bit words) FLASH, 64 Bytes SRAM, 14-Pin PDIP, 2.0 to 5.5V Supply Range, Extended Temperature
footprint DIP14 (DIP; 14 Leads; Row Spacing 7.62 mm; Pitch 2.54 mm)
pins: 1 VDD (power), 2 RA5/T1CKI/OSC1/CLKIN (io), 3 RA4/~{T1G}/OSC2/AN3/CLKOUT (io), 4 RA3/~{MCLR}/VPP (in), 5 RC5 (io), 6 RC4 (io), 7 RC3/AN7 (io), 8 RC2/AN6 (io), 9 RC1/AN5 (io), 10 RC0/AN4 (io), 11 RA2/AN2/COUT/T0CKI/INT (io), 12 RA1/AN1/CIN-/VREF/ICSPCLK (io), 13 RA0/AN0/CIN+/ICSPDAT (io), 14 VSS (power)

## PIC16F685
designator U?
Flash-Based, 8-Bit CMOS Microcontrollers with  nanoWatt Technology; Note: Verify oscillator characteristics if changing from this device to another.; Note: Not recommended for new designs. Consider PIC16C54C instead.; Published: 11-Oct-2004; LatestRevisionDate: 04-Mar-2005; LatestRevisionNote: Stylized 3D Model Added.; DatasheetVersion: DS30453D_2002; PackageVersion: 2003; PackageReference: PDIP300-18; Publisher: Altium Limited; PackageDescription: DIP, Plastic; 18 Leads; Row Spacing 7.62 mm; Pitch 2.54 mm; Code_JEDEC: MS-001; ComponentLink1Description: Manufacturer Link; ComponentLink1URL: http://www.microchip.com; ComponentLink2Description: Datasheet; ComponentLink2URL: http://ww1.microchip.com/downloads/en/DeviceDoc/30453d.pdf; ComponentLink3Description: Packaging Specification; ComponentLink3URL: http://ww1.microchip.com/downloads/en/PackagingSpec/00049AD.pdf
pins: 1 VDD (power), 2 RA5/T1CKI/OSC1/CLKIN (io), 3 RA4/AN3/T1G/OSC2/CLKOUT (io), 4 RA3/MCLR/VPP (io), 5 RC5/CCP1/P1A (io), 6 RC4/C2OUT/P1B (io), 7 RC3/AN7/P1C (io), 8 RC6/AN8 (io), 9 RC7/AN9 (io), 10 RB7 (io), 11 RB6 (io), 12 RB5/AN11 (io), 13 RB4/AN10 (io), 14 RC2/AN6/P1 (io), 15 RC1/AN5/C12IN- (io), 16 RC0/AN4/C2IN+ (io), 17 RA2/AN2/T0CKI/INT/C1OUT (io), 18 RA1/AN1/C12IN-/VREF/ICSPCLK (io), 19 RA0/AN0/C1IN+/ICSPDAT/ULPWU (io), 20 VSS (power)

## PIC16F688-E/P
designator U?
FLASH-Based 8-Bit CMOS Microcontroller, 10-Bit A/D, 4K (x14-Bit words) FLASH, 256 Bytes SRAM, 14-Pin PDIP, Extended Temperature; Published: 11-Oct-2004; LatestRevisionDate: 04-Mar-2005; LatestRevisionNote: Stylized 3D Model Added.; DatasheetVersion: DS41203A_2003; PackageVersion: 2003; PackageReference: PDIP300-14; Publisher: Altium Limited; PackageDescription: DIP, Plastic; 14 Leads; Row Spacing 7.62 mm; Pitch 2.54 mm; Code_JEDEC: MS-001; ComponentLink1Description: Manufacturer Link; ComponentLink1URL: http://www.microchip.com; ComponentLink2Description: Datasheet; ComponentLink2URL: http://ww1.microchip.com/downloads/en/DeviceDoc/41203B.pdf; ComponentLink3Description: Packaging Specification; ComponentLink3URL: http://ww1.microchip.com/downloads/en/PackagingSpec/00049AD.pdf
footprint DIP14 (DIP; 14 Leads; Row Spacing 7.62 mm; Pitch 2.54 mm)
pins: 1 VDD (power), 2 RA5/T1CKI/OSC1/CLKIN (io), 3 RA4/AN3/~{T1G}/OSC2/CLKOUT (io), 4 RA3/~{MCLR}/VPP (in), 5 RC5/RX/DT (io), 6 RC4/C2OUT/TX/CK (io), 7 RC3/AN7 (io), 8 RC2/AN6 (io), 9 RC1/AN5/C2IN- (io), 10 RC0/AN4/C2IN+ (io), 11 RA2/AN2/T0CKI/INT/C1OUT (io), 12 RA1/AN1/C1IN-/VREF/ICSPCLK (io), 13 RA0/AN0/C1IN+/ICSPDAT (io), 14 VSS (power)

## PIC16F877-20I/P
designator U??
8-Bit CMOS FLASH Microcontroller, 8K (x14-Bit words) FLASH, 368 Bytes RAM, 20 MHz, 40-Pin PDIP, Standard VDD Range, Industrial Temperature; Note: Not recommended for new designs. Consider PIC16F877A instead.; Published: 11-Oct-2004; LatestRevisionDate: 04-Mar-2005; LatestRevisionNote: Stylized 3D Model Added.; DatasheetVersion: DS30292C_2001; PackageVersion: 2003; PackageReference: PDIP600-40; Publisher: Altium Limited; PackageDescription: DIP, Plastic; 40 Leads; Row Spacing 15.24 mm; Pitch 2.54 mm; Code_JEDEC: MO-011; ComponentLink1Description: Manufacturer Link; ComponentLink1URL: http://www.microchip.com; ComponentLink2Description: Datasheet; ComponentLink2URL: http://ww1.microchip.com/downloads/en/DeviceDoc/30292c.pdf; ComponentLink3Description: Packaging Specification; ComponentLink3URL: http://ww1.microchip.com/downloads/en/PackagingSpec/00049AD.pdf
footprint DIP40 (DIP, Plastic; 40 Leads; Row Spacing 15.24 mm; Pitch 2.54 mm)
pins: 1 ~{MCLR}/VPP (in), 2 RA0/AN0 (io), 3 RA1/AN1 (io), 4 RA2/AN2/VREF- (io), 5 RA3/AN3/VREF+ (io), 6 RA4/T0CKI (io), 7 RA5/AN4/~{SS} (io), 8 RE0/~{RD}/AN5 (io), 9 RE1/~{WR}/AN6 (io), 10 RE2/~{CS}/AN7 (io), 11 VDD (power), 12 VSS (power), 13 OSC1/CLKIN (in), 14 OSC2/CLKOUT (out), 15 RC0/T1OSO/T1CKI (io), 16 RC1/T1OSI/CCP2 (io), 17 RC2/CCP1 (io), 18 RC3/SCK/SCL (io), 19 RD0/PSP0 (io), 20 RD1/PSP1 (io), 21 RD2/PSP2 (io), 22 RD3/PSP3 (io), 23 RC4/SDI/SDA (io), 24 RC5/SDO (io), 25 RC6/TX/CK (io), 26 RC7/RX/DT (io), 27 RD4/PSP4 (io), 28 RD5/PSP5 (io), 29 RD6/PSP6 (io), 30 RD7/PSP7 (io), 31 VSS (power), 32 VDD (power), 33 RB0/INT (io), 34 RB1 (io), 35 RB2 (io), 36 RB3/PGM (io), 37 RB4 (io), 38 RB5 (io), 39 RB6/PGC (io), 40 RB7/PGD (io)

## PIC18F1330-E/P_1
designator U?, comment PIC18F1330-E/P
FLASH-Based 8-Bit CMOS Microcontroller, 10-Bit A/D, 4K (x14-Bit words) FLASH, 256 Bytes SRAM, 14-Pin PDIP, Extended Temperature; Published: 11-Oct-2004; LatestRevisionDate: 04-Mar-2005; LatestRevisionNote: Stylized 3D Model Added.; DatasheetVersion: DS41203A_2003; PackageVersion: 2003; PackageReference: PDIP300-14; Publisher: Altium Limited; PackageDescription: DIP, Plastic; 14 Leads; Row Spacing 7.62 mm; Pitch 2.54 mm; Code_JEDEC: MS-001; ComponentLink1Description: Manufacturer Link; ComponentLink1URL: http://www.microchip.com; ComponentLink2Description: Datasheet; ComponentLink2URL: http://ww1.microchip.com/downloads/en/DeviceDoc/41203B.pdf; ComponentLink3Description: Packaging Specification; ComponentLink3URL: http://ww1.microchip.com/downloads/en/PackagingSpec/00049AD.pdf
footprint DIP18 (DIP; 18 Leads; Row Spacing 7.62 mm; Pitch 2.54 mm)
pins: 1 RA0/AN0/INT0/KBI0/CMP0 (io), 2 RA1/AN1/INT1/KBI1 (io), 3 RA4/T0CKI/AN2/VREF+ (io), 4 MCLR/VPP/RA5/FLTA (in), 5 VSS/AVSS (power), 6 RA2/TX/CK (io), 7 RA3/RX/DT (io), 8 RB0/PWM0 (io), 9 RB1/PWM1 (io), 10 RB4/PWM2 (io), 11 RB5/PWM3 (io), 12 RB6/PWM4/PGC (io), 13 RB7/PWM5/PGD (io), 14 VDD/AVDD (power), 15 RA6/OSC2/CLKO/T1OSO/T1CKI/AN3 (io), 16 RA7/OSC1/CLKI/T1OSI/FLTA (io), 17 RB2/INT2/KBI2/CMP2/T1OSO/T1CKI (io), 18 RB3/INT3/KBI3/CMP1/T1OSI (io)

## PIC18F2550-E/P
designator U?
FLASH-Based 8-Bit CMOS Microcontroller, 10-Bit A/D, 32K (x14-Bit words) FLASH, 2048 Bytes SRAM, 28-Pin PDIP; Published: 11-Oct-2004; LatestRevisionDate: 04-Mar-2005; LatestRevisionNote: Stylized 3D Model Added.; DatasheetVersion: DS41203A_2003; PackageVersion: 2003; PackageReference: PDIP300-14; Publisher: Altium Limited; PackageDescription: DIP, Plastic; 14 Leads; Row Spacing 7.62 mm; Pitch 2.54 mm; Code_JEDEC: MS-001; ComponentLink1Description: Manufacturer Link; ComponentLink1URL: http://www.microchip.com; ComponentLink2Description: Datasheet; ComponentLink2URL: http://ww1.microchip.com/downloads/en/DeviceDoc/41203B.pdf; ComponentLink3Description: Packaging Specification; ComponentLink3URL: http://ww1.microchip.com/downloads/en/PackagingSpec/00049AD.pdf
footprint DIP28N (DIP; 28 Leads; Row Spacing 7.62 mm; Pitch 2.54 mm)
pins: 1 ~{MCLR}/VPP/RE3 (in), 2 RA0/AN0 (io), 3 RA1/AN1 (io), 4 RA2/AN2/VREF-/CVREF (io), 5 RA3/AN3/VREF+ (io), 6 RA4/T0CKI/C1OUT/RCV (io), 7 RA5/AN4/~{SS}/HLVDIN/C2OUT (in), 8 VSS (power), 9 OSC1/CLKI (in), 10 OSC2/CLKO/RA6 (io), 11 RC0/T1OSO/T13CKI (io), 12  RC1/T1OSI/CCP2/~{UOE} (io), 13 RC2/CCP1 (io), 14 VUSB (out), 15 RC4/D-/VM (io), 16 RC5/D+/VP  (io), 17 RC6/TX/CK (io), 18 RC7/RX/DT/SDO (io), 19 VSS (power), 20 VDD (power), 21 RB0/AN12/INT0/FLT0/SDI/SDA (io), 22 RB1/AN10/INT1/SCK/SCL (io), 23 RB2/AN8/INT2/VMO (io), 24  RB3/AN9/CCP2/VP (io), 25 RB4/AN11/KBI0 (io), 26 RB5/KBI1/PGM (io), 27 RB6/KBI2/PGC (io), 28 RB7/KBI3/PGD (io)

## STM32F103C8T6
designator U??
STM32 ARM-based 32-bit MCU with 64 Kbytes Flash, 48-pin LQFP, Industrial Temperature; Published: 30-May-2008; DatasheetVersion: rev6, Mar-2008; PackageVersion: Mar-2008; PackageReference: LQFP48; Publisher: Altium Limited; PackageDescription: 48-Pin Low-Profile Quad Flat Pack, 7 x 7 mm Body, 0.5 mm Pitch (LQFP48); ComponentLink1Description: Manufacturer Link; ComponentLink1URL: www.st.com/stm32; ComponentLink2Description: Datasheet; ComponentLink2URL: http://www.st.com/stonline/products/literature/ds/13587.pdf
footprint LQFP48_N (Thin QFP, 48-Leads, Body 7x7mm, Pitch 0.5mm, IPC Medium Density)
footprint LQFP48_L (Thin QFP, 48-Leads, Body 7x7mm, Pitch 0.5mm, IPC High Density)
footprint LQFP48_M (Thin QFP, 48-Leads, Body 7x7mm, Pitch 0.5mm, IPC Low Density)
pins: 1 VBAT (power), 2 PC13-TAMPER-RTC (io), 3 PC14-OSC32_IN (io), 4 PC15-OSC32_OUT (io), 5 OSC_IN/PD0 (in), 6 OSC_OUT/PD1 (out), 7 NRST (io), 8 VSSA (power), 9 VDDA (power), 10 PA0-WKUP (io), 11 PA1 (io), 12 PA2 (io), 13 PA3 (io), 14 PA4 (io), 15 PA5 (io), 16 PA6 (io), 17 PA7 (io), 18 PB0 (io), 19 PB1 (io), 20 PB2/BOOT1 (io), 21 PB10 (io), 22 PB11 (io), 23 VSS_1 (power), 24 VDD_1 (power), 25 PB12 (io), 26 PB13 (io), 27 PB14 (io), 28 PB15 (io), 29 PA8 (io), 30 PA9 (io), 31 PA10 (io), 32 PA11 (io), 33 PA12 (io), 34 PA13/JTMS/SWDIO (io), 35 VSS_2 (power), 36 VDD_2 (power), 37 PA14/JTCK/SWCLK (io), 38 PA15/JTDI (io), 39 PB3/JTDO (io), 40 PB4/JNTRST (io), 41 PB5 (io), 42 PB6 (io), 43 PB7 (io), 44 BOOT0 (in), 45 PB8 (io), 46 PB9 (io), 47 VSS_3 (power), 48 VDD_3 (power)

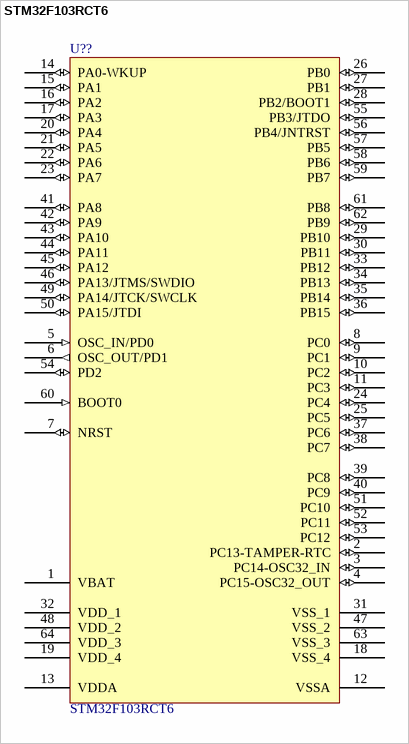
[diagram p4: symbol STM32F103RCT6]

## STM32F103RCT6
designator U??
STM32 ARM-based 32-bit MCU with 128 Kbytes Flash, 64-pin LQFP, Industrial Temperature; Published: 30-May-2008; DatasheetVersion: rev6, Mar-2008; PackageVersion: Mar-2008; PackageReference: LQFP64; Publisher: Altium Limited; PackageDescription: 64-Pin Low-Profile Quad Flat Pack, 10 x 10 mm Body, 0.5 mm Pitch (LQFP64); ComponentLink1Description: Manufacturer Link; ComponentLink1URL: www.st.com/stm32; ComponentLink2Description: Datasheet; ComponentLink2URL: http://www.st.com/stonline/products/literature/ds/13587.pdf
footprint LQFP64_N (Thin QFP, 64-Leads, Body 10x10mm, Pitch 0.5mm, IPC Medium Density)
pins: 1 VBAT (power), 2 PC13-TAMPER-RTC (io), 3 PC14-OSC32_IN (io), 4 PC15-OSC32_OUT (io), 5 OSC_IN/PD0 (in), 6 OSC_OUT/PD1 (out), 7 NRST (io), 8 PC0 (io), 9 PC1 (io), 10 PC2 (io), 11 PC3 (io), 12 VSSA (power), 13 VDDA (power), 14 PA0-WKUP (io), 15 PA1 (io), 16 PA2 (io), 17 PA3 (io), 18 VSS_4 (power), 19 VDD_4 (power), 20 PA4 (io), 21 PA5 (io), 22 PA6 (io), 23 PA7 (io), 24 PC4 (io), 25 PC5 (io), 26 PB0 (io), 27 PB1 (io), 28 PB2/BOOT1 (io), 29 PB10 (io), 30 PB11 (io), 31 VSS_1 (power), 32 VDD_1 (power), 33 PB12 (io), 34 PB13 (io), 35 PB14 (io), 36 PB15 (io), 37 PC6 (io), 38 PC7 (io), 39 PC8 (io), 40 PC9 (io), 41 PA8 (io), 42 PA9 (io), 43 PA10 (io), 44 PA11 (io), 45 PA12 (io), 46 PA13/JTMS/SWDIO (io), 47 VSS_2 (power), 48 VDD_2 (power), 49 PA14/JTCK/SWCLK (io), 50 PA15/JTDI (io), 51 PC10 (io), 52 PC11 (io), 53 PC12 (io), 54 PD2 (io), 55 PB3/JTDO (io), 56 PB4/JNTRST (io), 57 PB5 (io), 58 PB6 (io), 59 PB7 (io), 60 BOOT0 (in), 61 PB8 (io), 62 PB9 (io), 63 VSS_3 (power), 64 VDD_3 (power)